# Altium schematic symbol library Connector.SchLib: 13 symbols
Pins are listed as number, name and electrical type; pins without a type are passive.

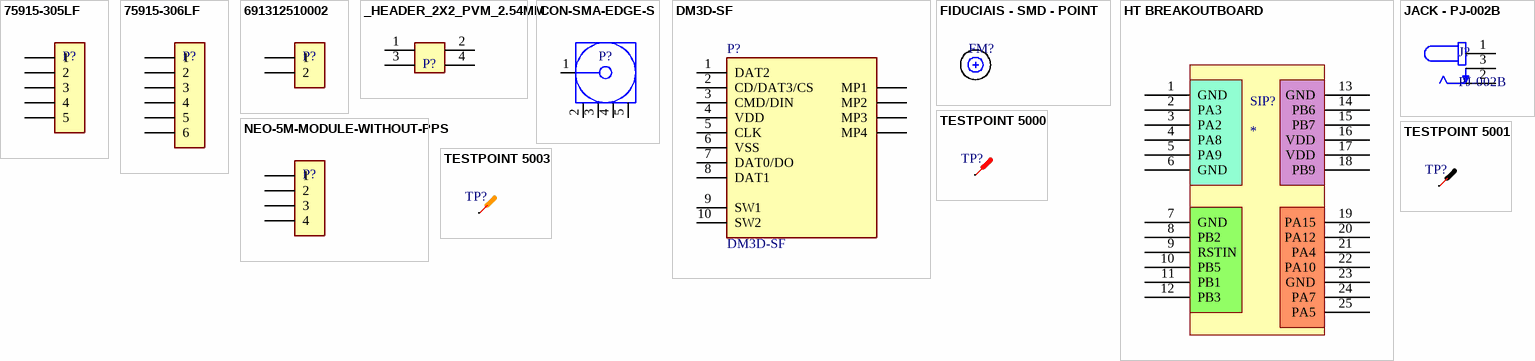
[diagram p0: symbols 75915-305LF to TESTPOINT 5003]

## 75915-305LF
designator P?  (value not drawn)
Dubox®, Board To Board Connector, Receptacle, Vertical, Through Hole, Single Row, Top Entry, 5 Positions, 2.54mm...; Manufacturer: Amphenol ICC / FCI; Manufacturer Part Number: 75915-305LF; Number of Positions: 5; Max Voltage Rating (AC): 1kV; Gender: Female; Contact Resistance: 20mR; Pitch: 2.54mm; RoHS: Yes; Category: Connectors; Stock 1: 1208; Pricing 1: 1=0,9623, 10=0,7633, 25=0,7318, 50=0,6655, 100=0,6312, 500=0,4183 (USD); Mounting Technology: Through Hole; Contact Plating: Gold; Contact Material: Bronze; Color: Blue; Housing Color: Blue; Housing Material: Thermoplastic; Min Operating Temperature: -65°C; Max Operating Temperature: 125°C; Number of Rows: 1; Packaging: Rail/Tube; Termination: Solder; Orientation: Straight; Series: DUBOX™, MezzSelect™, Basics+; Package Quantity: 46; Number of Contacts: 5; Connector Type: Receptacle; Length: 12.62mm; Depth: 2.5mm; Radiation Hardening: No; Lead Free: Lead Free; ComponentLink1URL: https://datasheet.ciiva.com/10148/75915-10148925.pdf?src-supplier=Avnet; ComponentLink1Description: https://datasheet.ciiva.com/10148/75915-10148925.pdf?src-supplier=Avnet; ComponentLink2URL: https://datasheet.ciiva.com/411/75915-411935.pdf?src-supplier=Digi-Key; ComponentLink2Description: https://datasheet.ciiva.com/411/75915-411935.pdf?src-supplier=Digi-Key; Supplier 1: Mouser; Supplier Part Number 1: 649-75915-305LF; Supplier 2: Digi-Key; Supplier Part Number 2: 609-5979-ND
footprint _HEADER_5P_PVF (CONN PTH 5POS PITCH 100 MILS VERTICAL FEMALE)
pins: 1, 2, 3, 4, 5

## 75915-306LF
designator P?  (value not drawn)
Dubox®, Board To Board Connector, Receptacle, Vertical, Through Hole, Single Row, Top Entry, 6 Positions, 2.54mm...; Manufacturer: Amphenol ICC / FCI; Manufacturer Part Number: 75915-306LF; Number of Positions: 6; Voltage Rating: 1kV; Current Rating: 3A; Contact Resistance: 20mR; Pitch: 2.54mm; Stack Height: 8.5mm; RoHS: No; Category: Connectors; Stock 1: 10427; Pricing 1: 1=0,8242, 10=0,6975, 25=0,6703, 50=0,6435, 100=0,5765, 250=0,4365 (USD); Mounting Technology: Through Hole; Contact Plating: Gold; Color: Blue; Contact Material: Bronze; Housing Material: Thermoplastic; Housing Color: Blue; Min Operating Temperature: -65°C; Max Operating Temperature: 125°C; Connector Type: Receptacle; Series: DUBOX™, MezzSelect™, Basics+; Packaging: Rail/Tube; Number of Rows: 1; Termination: Solder; Package Quantity: 38; Number of Contacts: 6; Gender: Receptacle; Orientation: Straight; Max Voltage Rating (AC): 1kV; Length: 15.16mm; Depth: 2.5mm; Radiation Hardening: No; Reach SVHC Compliant: No; ComponentLink1URL: http://uk.rs-online.com/webdocs/1450/0900766b81450f78.pdf?src-supplier=Rs; ComponentLink1Description: http://uk.rs-online.com/webdocs/1450/0900766b81450f78.pdf?src-supplier=Rs; ComponentLink2URL: https://www.alliedelec.com/m/d/3fdd05ac84d362d84c92a466b6b2a112.pdf?src-supplier=Allied+Electronics; ComponentLink2Description: https://www.alliedelec.com/m/d/3fdd05ac84d362d84c92a466b6b2a112.pdf?src-supplier=Allied+Electronics; ComponentLink3URL: https://datasheet.octopart.com/75915-306LF-Amphenol-Communications-Solutions-datasheet-8496762.pdf?src-supplier=Newark; ComponentLink3Description: https://datasheet.octopart.com/75915-306LF-Amphenol-Communications-Solutions-datasheet-8496762.pdf?src-supplier=Newark; ComponentLink4URL: http://portal.fciconnect.com/Comergent/fci/drawing/75915.pdf?src-supplier=Avnet; ComponentLink4Description: http://portal.fciconnect.com/Comergent/fci/drawing/75915.pdf?src-supplier=Avnet; ComponentLink5URL: https://cdn.amphenol-icc.com/media/wysiwyg/files/drawing/75915.pdf?src-supplier=Digi-Key; ComponentLink5Description: https://cdn.amphenol-icc.com/media/wysiwyg/files/drawing/75915.pdf?src-supplier=Digi-Key; ComponentLink6URL: http://www.mouser.com/ds/2/154/75915-68319.pdf?src-supplier=Mouser; ComponentLink6Description: http://www.mouser.com/ds/2/154/75915-68319.pdf?src-supplier=Mouser; ComponentLink7URL: http://components.arrow.com/part/dataview/41915849S8311523N8314?src-supplier=Arrow+Electronics; ComponentLink7Description: http://components.arrow.com/part/dataview/41915849S8311523N8314?src-supplier=Arrow+Electronics; ComponentLink8URL: http://portal.fciconnect.com/Comergent/fci/drawing/75915.pdf?src-supplier=Element14; ComponentLink8Description: http://portal.fciconnect.com/Comergent/fci/drawing/75915.pdf?src-supplier=Element14; ComponentLink9URL: https://datasheet.octopart.com/75915-306LF-Amphenol-datasheet-94059536.pdf?src-supplier=Element14; ComponentLink9Description: https://datasheet.octopart.com/75915-306LF-Amphenol-datasheet-94059536.pdf?src-supplier=Element14; ComponentLink10URL: https://datasheet.octopart.com/75915-306LF-Amphenol-Communications-Solutions-datasheet-168215130.pdf?src-supplier=TME; ComponentLink10Description: https://datasheet.octopart.com/75915-306LF-Amphenol-Communications-Solutions-datasheet-168215130.pdf?src-supplier=TME; Supplier 1: Mouser; Supplier Part Number 1: 649-75915-306LF; Supplier 2: Digi-Key; Supplier Part Number 2: 609-3558-ND
footprint HEADER_6P_PVF - 75915-306LF (Board to Board & Mezzanine Connectors 6P VRT SR RECEPT .76 GOLD)
pins: 1, 2, 3, 4, 5, 6

## 691312510002
designator P?
312; 5.08mm Pitch Straight Pluggable Term Block; PCB Header; Through Hole; 2 Way; Manufacturer: Wurth Electronics; Manufacturer Part Number: 691312510002; Number of Positions Per Level: 2; Number of Levels: 1; Current: 20A; Voltage: 300V; Supplier 1: Mouser; RoHS: Yes; Category: Terminal Blocks; Stock 1: 3027; Pricing 1: 1=0,35, 10=0,333, 50=0,316, 100=0,316, 1000=0,312, 10000=0,308 (USD); Mounting Technology: Through Hole; Color: Green; Contact Material: Brass; Housing Material: PBT; Contact Plating: Tin; Number of Rows: 1; Termination: Solder; Number of Contacts: 2; Series: WR-TBL Series 312; Number of Positions: 2; Length: 11.5mm; Width: 10.16mm; Height: 12mm; Pitch: 5.08mm; RoHS Compliant: Yes; Flammability Rating: UL94 V-0; Reach SVHC Compliant: Unknown; ComponentLink1URL: https://datasheet.ciiva.com/48692/001088667-da-01-en-wr-tbl-terminal-block312-691312510002-48692923.pdf?src-supplier=Conrad; ComponentLink1Description: https://datasheet.ciiva.com/48692/001088667-da-01-en-wr-tbl-terminal-block312-691312510002-48692923.pdf?src-supplier=Conrad; Supplier Part Number 1: 710-691312510002; Supplier 2: Digi-Key; Supplier Part Number 2: 732-2064-ND
footprint 691312510002 (Pluggable Terminal Blocks WR-TBL 300VAC 20A 2P Right Angle)
pins: 1, 2

## _HEADER_2X2_PVM_2.54MM
designator P?  (value not drawn)
HEADER 2X3, PTH-2.54MM, VERT, MALE
footprint 67997-404HLF
pins: 1, 2, 3, 4

## CON-SMA-EDGE-S
designator P?  (value not drawn)
Sma Female Connector, Pcb Edge Mount Rohs Compliant: Yes; Manufacturer: RF Solutions; Manufacturer Part Number: CON-SMA-EDGE-S; Number of Ports: 1; Supplier 2: Digi-Key; RoHS: Yes; Category: RF / Coaxial Connectors; Stock 1: 11103; Pricing 1: 1=1,69 (USD); Mounting Technology: Edge,Board; Case/Package: SMA; Connector Type: SMA; Fastening Type: Threaded; Termination: Solder; Series: -; ComponentLink1URL: https://media.digikey.com/pdf/Data%20Sheets/RF%20Solutions%20PDFs/CON-SMA-EDGE.pdf?src-supplier=Digi-Key; ComponentLink1Description: https://media.digikey.com/pdf/Data%20Sheets/RF%20Solutions%20PDFs/CON-SMA-EDGE.pdf?src-supplier=Digi-Key; Supplier Part Number 2: CON-SMA-EDGE-S-ND; Supplier 1: Mouser; Supplier Part Number 1: 223-CON-SMA-EDGE-S
footprint CON-SMA-EDGE-S (Connectores RF / Connectores Coaxiais SMA Female PCB Edge Mount)
pins: 1 SIGNAL, 2 GND1 (power), 3 GND2 (power), 4 GND3 (power), 5 GND4 (power)

## DM3D-SF
designator P?
Memory Card Connectors MICRO SD CD CONN STD SMT PUSHPULL; Manufacturer: Hirose; Gender: Female; Contact Resistance: 100mR; Current Rating: 500mA; Voltage Rating (AC): 125V; Number of Contacts: 8; Insulation Resistance: 1GR; Pitch: 1.1mm; Supplier 1: Mouser; Manufacturer Part Number: DM3D-SF; RoHS: Yes; Category: Memory Connectors; Stock 1: 57458; Pricing 1: 1=1,82, 10=1,59, 50=1,59, 100=1,42, 1000=1,02, 10000=0,899 (USD); Mounting Technology: Surface Mount; Contact Plating: Gold; Contact Material: Copper Alloy,Copper; Housing Material: Polymer; Min Operating Temperature: -25°C; Max Operating Temperature: 85°C; Packaging: Tape and Reel; Connector Type: Connector; Series: DM3; Number of Rows: 1; Package Quantity: 1; Max Current Rating: 500mA; Termination: Solder; Orientation: Right Angle; Max Voltage Rating (AC): 125V; Length: 11.95mm; Width: 11.95mm; Depth: 11.45mm; Radiation Hardening: No; Reach SVHC Compliant: No; Lead Free: Lead Free; Flammability Rating: UL94 V-0; RoHS Compliant: Yes; ComponentLink1URL: https://datasheet.ciiva.com/11755/0900766b80fd13c1-11755152.pdf?src-supplier=Rs; ComponentLink1Description: https://datasheet.ciiva.com/11755/0900766b80fd13c1-11755152.pdf?src-supplier=Rs; ComponentLink2URL: https://datasheet.ciiva.com/1105/1697167-1105105.pdf?src-supplier=Element14; ComponentLink2Description: https://datasheet.ciiva.com/1105/1697167-1105105.pdf?src-supplier=Element14; ComponentLink3URL: https://datasheet.ciiva.com/22627/1697167-22627974.pdf?src-supplier=Farnell; ComponentLink3Description: https://datasheet.ciiva.com/22627/1697167-22627974.pdf?src-supplier=Farnell; ComponentLink4URL: https://datasheet.ciiva.com/3122/e60900232-3122537.pdf?src-supplier=Avnet; ComponentLink4Description: https://datasheet.ciiva.com/3122/e60900232-3122537.pdf?src-supplier=Avnet; ComponentLink5URL: https://datasheet.ciiva.com/15174/getdatasheetpartid-432464-15174822.pdf?src-supplier=Verical; ComponentLink5Description: https://datasheet.ciiva.com/15174/getdatasheetpartid-432464-15174822.pdf?src-supplier=Verical; ComponentLink6URL: https://datasheet.ciiva.com/16287/e60900232-16287615.pdf?src-supplier=Future+Electronics; ComponentLink6Description: https://datasheet.ciiva.com/16287/e60900232-16287615.pdf?src-supplier=Future+Electronics; ComponentLink7URL: https://datasheet.ciiva.com/683/e60900232-683362.pdf?src-supplier=Digi-Key; ComponentLink7Description: https://datasheet.ciiva.com/683/e60900232-683362.pdf?src-supplier=Digi-Key; ComponentLink8URL: https://datasheet.ciiva.com/683/e60900232-683363.pdf?src-supplier=Digi-Key; ComponentLink8Description: https://datasheet.ciiva.com/683/e60900232-683363.pdf?src-supplier=Digi-Key; ComponentLink9URL: https://datasheet.ciiva.com/683/e60900232-683364.pdf?src-supplier=Digi-Key; ComponentLink9Description: https://datasheet.ciiva.com/683/e60900232-683364.pdf?src-supplier=Digi-Key; Supplier Part Number 1: 798-DM3D-SF; Supplier 2: Digi-Key; Supplier 3: Digi-Key; Supplier Part Number 2: HR1941CT-ND; Supplier Part Number 3: HR1941DKR-ND
footprint DM3DSF
pins: 1 DAT2, 2 CD/DAT3/CS, 3 CMD/DIN, 4 VDD, 5 CLK, 6 VSS, 7 DAT0/DO, 8 DAT1, 9 SW1, 10 SW2, MP1, MP2, MP3, MP4

## FIDUCIAIS - SMD - POINT
designator FM?  (value not drawn)
footprint FIDUCIAL  1mm SMD
pins: 1

## HT BREAKOUTBOARD
designator SIP?
Pinos Fêmea para encaixe de HT Breakout
footprint HT BREAKOUTBOARD PINS
pins: 1 GND, 2 PA3, 3 PA2, 4 PA8, 5 PA9, 6 GND, 7 GND, 8 PB2, 9 RSTIN, 10 PB5, 11 PB1, 12 PB3, 13 GND, 14 PB6, 15 PB7, 16 VDD, 17 VDD, 18 PB9, 19 PA15, 20 PA12, 21 PA4, 22 PA10, 23 GND, 24 PA7, 25 PA5

## JACK - PJ-002B
designator J?, comment PJ-002B
CONN PWR JACK 2.5X5.5MM SOLDER; Manufacturer: CUI; Gender: Male; Shielding: Unshielded; Current Rating: 2.5A; Voltage Rating: 24V; Insulation Resistance: 100MR; Number of Conductors: 2; Supplier 1: Digi-Key; Manufacturer Part Number: PJ-002B; RoHS: Yes; Category: Connectors; Mount: Through Hole; Contact Plating: Nickel; Color: Black; Housing Color: Black; Housing Material: Thermoplastic; Contact Material: Copper,Copper Alloy; Min Operating Temperature: -25°C; Max Operating Temperature: 85°C; Series: -; Packaging: Bulk; Package Quantity: 500; Termination: Through Hole; Connector Type: Jack; Orientation: Horizontal; Contact Gender: Male; Diameter: 2.5mm; Lead Free: Lead Free; Flammability Rating: UL94 V-0; ComponentLink1URL: http://www.mouser.com/ds/2/670/pj-002b-515833.pdf?src-supplier=Mouser; ComponentLink1Description: http://www.mouser.com/ds/2/670/pj-002b-515833.pdf?src-supplier=Mouser; ComponentLink2URL: https://www.cui.com/product/resource/digikeypdf/pj-002b.pdf?src-supplier=Digi-Key; ComponentLink2Description: https://www.cui.com/product/resource/digikeypdf/pj-002b.pdf?src-supplier=Digi-Key; ComponentLink3URL: http://www.cui.com/Product/Resource/FuturePDF/PJ-002B.pdf?src-supplier=Future+Electronics; ComponentLink3Description: http://www.cui.com/Product/Resource/FuturePDF/PJ-002B.pdf?src-supplier=Future+Electronics; Supplier Part Number 1: CP-002B-ND
footprint JACK - CUI_PJ-002B
footprint JACK - 163179PHEX
pins: 1, 2, 3

## NEO-5M-MODULE-WITHOUT-PPS
designator P?  (value not drawn)
NEO 5M GPS MODULE (NO PPS SIGNAL)
footprint NEO-5M-MODULE-NO-PPS (GPS NEM 5M MODUE WITHOUT PPS SIGNAL)
footprint NEO-5M-MODULE-NO-PPS_1 (GPS NEM 5M MODUE WITHOUT PPS SIGNAL)
pins: 1, 2, 3, 4

## TESTPOINT 5000
designator TP?, comment .Net  (value not drawn)
PC TEST POINT MINIATURE RED; Manufacturer 1: Keystone Electronics; Manufacturer Part Number 1: 5000; Body Material: PBT,Bronze; Plating: Silver; Number of Contacts: 1; Insulation: Insulated; Outside Diameter: 2.54mm; Inside Diameter: 1.27mm; Hole Diameter: 1.6mm; Supplier 1: Digi-Key; Stock 1: 386862; Pricing 1: 1=0,35000, 25=0,30800, 100=0,30150, 250=0,28304, 500=0,25230, 1000=0,17140, 2500=0,15296, 5000=0,14340, 10000=0,13384 (USD); RoHS: Yes; Mount: Through Hole,PCB; Color: Red; Contact Material: Bronze; Material: Nylon,Bronze,Silver; Contact Plating: Silver,Tin; Housing Color: Red; Package Quantity: 100; Packaging: Bulk; Orientation: Straight; Number of Ports: 1; Length: 7.62mm; Height: 0.3inch; Lead Free: Lead Free; REACH SVHC: No SVHC; Flammability Rating: UL94 V-0; ComponentLink1URL: https://datasheet.ciiva.com/11836/0900766b8009b7c7-11836046.pdf?src-supplier=RSComponents; ComponentLink1Description: https://datasheet.ciiva.com/11836/0900766b8009b7c7-11836046.pdf?src-supplier=RSComponents; ComponentLink2URL: https://datasheet.ciiva.com/2917/5000-5004-2917627.pdf?src-supplier=Digi-Key; ComponentLink2Description: https://datasheet.ciiva.com/2917/5000-5004-2917627.pdf?src-supplier=Digi-Key; ComponentLink3URL: https://datasheet.ciiva.com/16883/70182825-16883965.pdf?src-supplier=Allied+Electronics; ComponentLink3Description: https://datasheet.ciiva.com/16883/70182825-16883965.pdf?src-supplier=Allied+Electronics; Supplier Part Number 1: 36-5000-ND
footprint TESTPOINT_MINI_RED
pins: 1

## TESTPOINT 5001
designator TP?, comment .Net  (value not drawn)
PC TEST POINT MINIATURE BLACK; Manufacturer 1: Keystone Electronics; Manufacturer Part Number 1: 5001; Plating: Silver; Body Material: PBT,Bronze; Number of Ports: 1; Insulation: Insulated; Inside Diameter: 1.27mm; Hole Diameter: 1.6mm; Outside Diameter: 2.54mm; Supplier 1: Digi-Key; Stock 1: 483919; Pricing 1: 1=0,35000, 25=0,30800, 100=0,30150, 250=0,28304, 500=0,25230, 1000=0,17140, 2500=0,15296, 5000=0,14340, 10000=0,13384 (USD); RoHS: Yes; Mount: Through Hole,PCB; Color: Black; Contact Material: Bronze; Material: Nylon,Bronze,Silver; Contact Plating: Silver,Tin; Housing Color: Black; Packaging: Bulk; Package Quantity: 100; Termination: Through Hole; Number of Contacts: 1; Orientation: Straight; Diameter: 2.54mm; Length: 7.62mm; Height: 0.3inch; Lead Free: Lead Free; REACH SVHC: No SVHC; Flammability Rating: UL94 V-0; ComponentLink1URL: https://datasheet.ciiva.com/27052/1581986-27052611.pdf?src-supplier=Jameco; ComponentLink1Description: https://datasheet.ciiva.com/27052/1581986-27052611.pdf?src-supplier=Jameco; ComponentLink2URL: https://datasheet.ciiva.com/11836/0900766b8009b7c7-11836045.pdf?src-supplier=RSComponents; ComponentLink2Description: https://datasheet.ciiva.com/11836/0900766b8009b7c7-11836045.pdf?src-supplier=RSComponents; ComponentLink3URL: https://datasheet.ciiva.com/16318/m60-2p60-16318423.pdf?src-supplier=Future+Electronics; ComponentLink3Description: https://datasheet.ciiva.com/16318/m60-2p60-16318423.pdf?src-supplier=Future+Electronics; ComponentLink4URL: https://datasheet.ciiva.com/22631/1703983-22631100.pdf?src-supplier=Element14; ComponentLink4Description: https://datasheet.ciiva.com/22631/1703983-22631100.pdf?src-supplier=Element14; Supplier Part Number 1: 36-5001-ND
footprint TESTPOINT_MINI_BLACK
pins: 1

## TESTPOINT 5003
designator TP?, comment 5003  (value not drawn)
PC TEST POINT MINIATURE ORANGE; Manufacturer 1: Keystone Electronics; Plating: Silver; Body Material: PBT; Outside Diameter: 2.54mm; Inside Diameter: 1.27mm; Supplier 1: Digi-Key; Manufacturer Part Number 1: 5003; RoHS: Yes; Category: Connectors; Stock 1: 86359; Pricing 1: 1=0,42000, 25=0,34080, 100=0,30150, 250=0,28304, 500=0,25230, 1000=0,19884, 2500=0,18180, 5000=0,17044 (USD); Mount: PCB,Through Hole; Number of Pins: 1; Color: Orange,White; Contact Material: Bronze; Contact Plating: Silver,Tin; Material: Nylon,Bronze,Silver; Packaging: Bulk; Series: THM; Package Quantity: 10; Termination: Through Hole; Length: 7.62mm; Height: 0.3inch; Lead Free: Lead Free; REACH SVHC: No SVHC; RoHS Compliant: Yes; Flammability Rating: UL94 V-0; ComponentLink1URL: https://datasheet.ciiva.com/1454/1703983-1454826.pdf?src-supplier=Element14; ComponentLink1Description: https://datasheet.ciiva.com/1454/1703983-1454826.pdf?src-supplier=Element14; ComponentLink2URL: https://datasheet.ciiva.com/22631/1703983-22631103.pdf?src-supplier=Element14; ComponentLink2Description: https://datasheet.ciiva.com/22631/1703983-22631103.pdf?src-supplier=Element14; ComponentLink3URL: https://datasheet.ciiva.com/4598/5000-5004-4598618.pdf?src-supplier=Mouser; ComponentLink3Description: https://datasheet.ciiva.com/4598/5000-5004-4598618.pdf?src-supplier=Mouser; ComponentLink4URL: https://datasheet.ciiva.com/16885/70182825-16885788.pdf?src-supplier=Allied+Electronics; ComponentLink4Description: https://datasheet.ciiva.com/16885/70182825-16885788.pdf?src-supplier=Allied+Electronics; Supplier Part Number 1: 36-5003-ND
footprint TESTPOINT_MINI_ORANGE
pins: 1